# EAGLE library part LM5069?* (library LM5069)
LM5069 High-side Hotswap controller Variants: -1 : latch-off on overload -2 : retry on overload --- MM- : 1000 reel MMX : 3500 reel
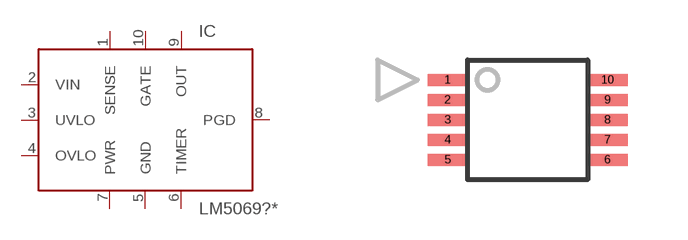
[diagram p0: symbol with the pads of S-PDSO-G10; footprint S-PDSO-G10]

Designator prefix IC

## LM5069MM-1 (MARK: SNAB; MF: Texas Instruments; MPN: LM5069MM-1/NOPB), LM5069MM-2 (MARK: SNBB; MF: Texas Instruments; MPN: LM5069MM-2/NOPB), LM5069MMX-1 (MARK: SNAB; MF: Texas Instruments; MPN: LM5069MMX-1/NOPB), LM5069MMX-2 (MARK: SNBB; MF: Texas Instruments; MPN: LM5069MMX-2/NOPB)  [S-PDSO-G10]
1  SENSE  in
2  VIN  in
3  UVLO  in
4  OVLO  in
5  GND  pwr
6  TIMER
7  PWR
8  PGD  out
9  OUT  in
10  GATE  out

## Footprint S-PDSO-G10 (pad centres in mm)
smd 1 x 0.3: 1 -2,1; 2 -2,0.5; 3 -2,0; 4 -2,-0.5; 5 -2,-1; 6 2,-1; 7 2,-0.5; 8 2,0; 9 2,0.5; 10 2,1